# Altium footprint library SN65LVDS.PcbLib: 1 footprints
Each footprint in its own frame and in the unit in brackets; x right, y up, seen from the top. Pads: shape width x height; smd on the part's side, far side on the other; paste and mask are expansions set on the pad; w line width, h text height; cw(c..) or ccw(c..) is an arc to the next point about the centre after c.
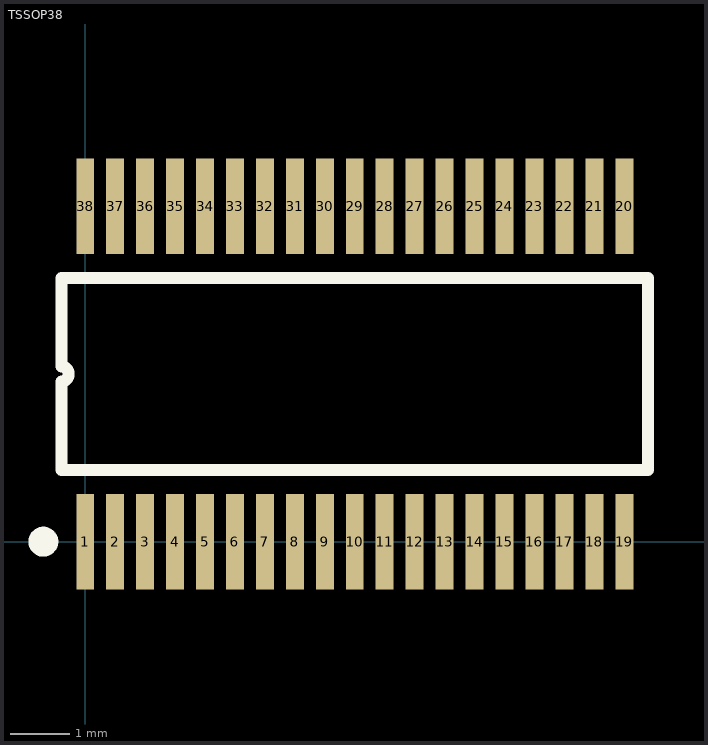
[diagram p0: the footprint, top view; thin cyan lines are the x and y axes]

## TSSOP38 [mm] "SN65LVDS - Differential Drivers and Receivers"
pads (38):
  rect 0.3x1.6 smd: 1(0,0) 2(0.5,0) 3(1,0) 4(1.5,0) 5(2,0) 6(2.5,0) 7(3,0) 8(3.5,0) 9(4,0) 10(4.5,0) 11(5,0) 12(5.5,0) 13(6,0) 14(6.5,0) 15(7,0) 16(7.5,0) 17(8,0) 18(8.5,0) 19(9,0) 20(9,5.6) 21(8.5,5.6) 22(8,5.6) 23(7.5,5.6) 24(7,5.6) 25(6.5,5.6) 26(6,5.6) 27(5.5,5.6) 28(5,5.6) 29(4.5,5.6) 30(4,5.6) 31(3.5,5.6) 32(3,5.6) 33(2.5,5.6) 34(2,5.6) 35(1.5,5.6) 36(1,5.6) 37(0.5,5.6) 38(0,5.6)
Top Overlay:
  circle w0.25: c-0.7,0 r0.125
  lines w0.2: -0.4,1.2 -0.4,2.675 ccw(c-0.4,2.8) -0.4,2.925 -0.4,4.4 9.4,4.4 9.4,1.2 -0.4,1.2
3D body: height 0.25, standoff 0, extent -0.127,-0.4 0.127,1.2
3D body: height 0.25, standoff 0, extent 0.373,-0.4 0.627,1.2
3D body: height 0.25, standoff 0, extent 0.873,-0.4 1.127,1.2
3D body: height 0.25, standoff 0, extent 1.373,-0.4 1.627,1.2
3D body: height 0.25, standoff 0, extent 1.873,-0.4 2.127,1.2
3D body: height 0.25, standoff 0, extent 2.373,-0.4 2.627,1.2
3D body: height 0.25, standoff 0, extent 2.873,-0.4 3.127,1.2
3D body: height 0.25, standoff 0, extent 3.373,-0.4 3.627,1.2
3D body: height 0.25, standoff 0, extent 3.873,-0.4 4.127,1.2
3D body: height 0.25, standoff 0, extent 4.373,-0.4 4.627,1.2
3D body: height 0.25, standoff 0, extent 4.873,-0.4 5.127,1.2
3D body: height 0.25, standoff 0, extent 5.373,-0.4 5.627,1.2
3D body: height 0.25, standoff 0, extent 5.873,-0.4 6.127,1.2
3D body: height 0.25, standoff 0, extent 6.373,-0.4 6.627,1.2
3D body: height 0.25, standoff 0, extent 6.873,-0.4 7.127,1.2
3D body: height 0.25, standoff 0, extent 7.373,-0.4 7.627,1.2
3D body: height 0.25, standoff 0, extent 7.873,-0.4 8.127,1.2
3D body: height 0.25, standoff 0, extent 8.373,-0.4 8.627,1.2
3D body: height 0.25, standoff 0, extent 8.873,-0.4 9.127,1.2
3D body: height 0.25, standoff 0, extent 8.873,4.4 9.127,6
3D body: height 0.25, standoff 0, extent 8.373,4.4 8.627,6
3D body: height 0.25, standoff 0, extent 7.873,4.4 8.127,6
3D body: height 0.25, standoff 0, extent 7.373,4.4 7.627,6
3D body: height 0.25, standoff 0, extent 6.873,4.4 7.127,6
3D body: height 0.25, standoff 0, extent 6.373,4.4 6.627,6
3D body: height 0.25, standoff 0, extent 5.873,4.4 6.127,6
3D body: height 0.25, standoff 0, extent 5.373,4.4 5.627,6
3D body: height 0.25, standoff 0, extent 4.873,4.4 5.127,6
3D body: height 0.25, standoff 0, extent 4.373,4.4 4.627,6
3D body: height 0.25, standoff 0, extent 3.873,4.4 4.127,6
3D body: height 0.25, standoff 0, extent 3.373,4.4 3.627,6
3D body: height 0.25, standoff 0, extent 2.873,4.4 3.127,6
3D body: height 0.25, standoff 0, extent 2.373,4.4 2.627,6
3D body: height 0.25, standoff 0, extent 1.873,4.4 2.127,6
3D body: height 0.25, standoff 0, extent 1.373,4.4 1.627,6
3D body: height 0.25, standoff 0, extent 0.873,4.4 1.127,6
3D body: height 0.25, standoff 0, extent 0.373,4.4 0.627,6
3D body: height 0.25, standoff 0, extent -0.127,4.4 0.127,6
3D body: height 1.2, standoff 0, extent -0.401,1.199 9.4,4.401